# EAGLE library part TSW-D-78_S (library con-samtec-tsw)
HEADER
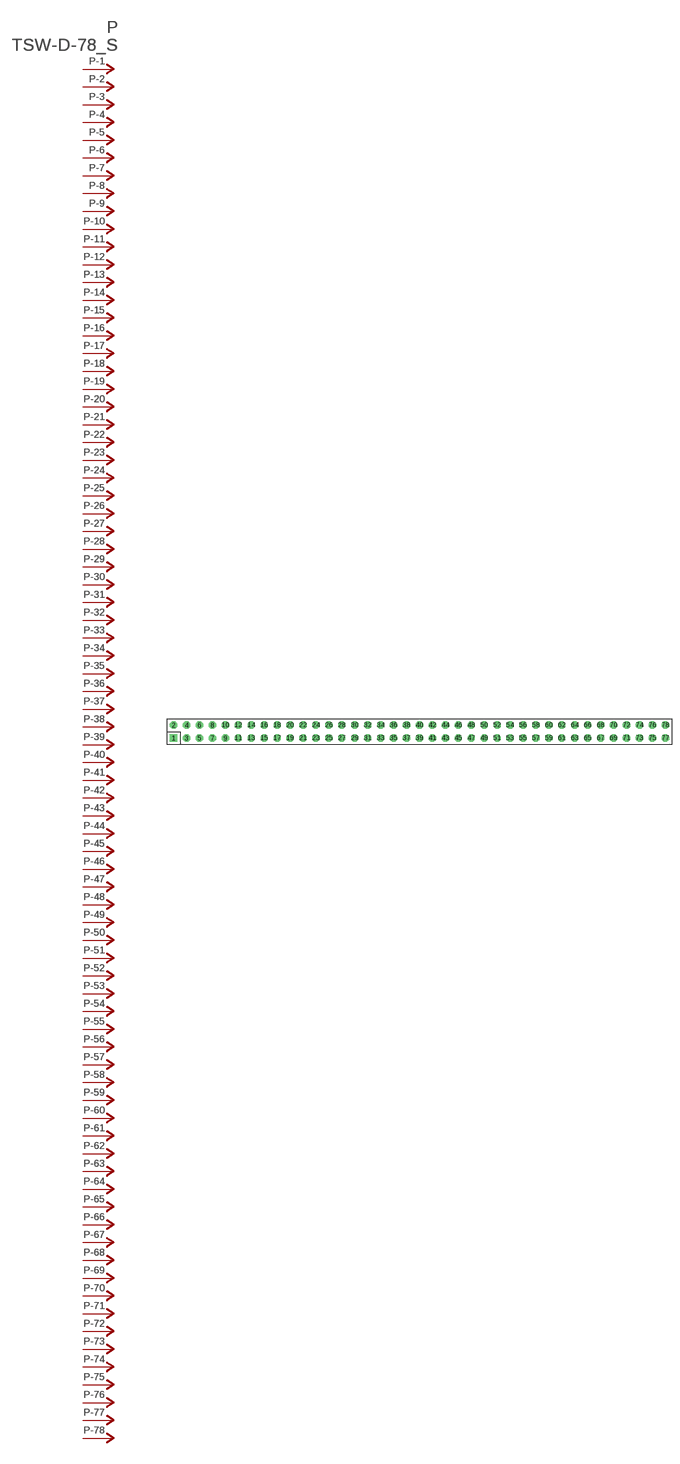
[diagram p174: symbol with the pads of TSW-D-78; footprint TSW-D-78]

Designator prefix P; gates -1=P-NV -2=P-N -3=P-N -4=P-N -5=P-N -6=P-N -7=P-N -8=P-N -9=P-N -10=P-N -11=P-N -12=P-N -13=P-N -14=P-N -15=P-N -16=P-N -17=P-N -18=P-N -19=P-N -20=P-N -21=P-N -22=P-N -23=P-N -24=P-N -25=P-N -26=P-N -27=P-N -28=P-N -29=P-N -30=P-N -31=P-N -32=P-N -33=P-N -34=P-N -35=P-N -36=P-N -37=P-N -38=P-N -39=P-N -40=P-N -41=P-N -42=P-N -43=P-N -44=P-N -45=P-N -46=P-N -47=P-N -48=P-N -49=P-N -50=P-N -51=P-N -52=P-N -53=P-N -54=P-N -55=P-N -56=P-N -57=P-N -58=P-N -59=P-N -60=P-N -61=P-N -62=P-N -63=P-N -64=P-N -65=P-N -66=P-N -67=P-N -68=P-N -69=P-N -70=P-N -71=P-N -72=P-N -73=P-N -74=P-N -75=P-N -76=P-N -77=P-N -78=P-N

## TSW-D-78_S  [TSW-D-78]
1  -1:P  pas
2  -2:P  pas
3  -3:P  pas
4  -4:P  pas
5  -5:P  pas
6  -6:P  pas
7  -7:P  pas
8  -8:P  pas
9  -9:P  pas
10  -10:P  pas
11  -11:P  pas
12  -12:P  pas
13  -13:P  pas
14  -14:P  pas
15  -15:P  pas
16  -16:P  pas
17  -17:P  pas
18  -18:P  pas
19  -19:P  pas
20  -20:P  pas
21  -21:P  pas
22  -22:P  pas
23  -23:P  pas
24  -24:P  pas
25  -25:P  pas
26  -26:P  pas
27  -27:P  pas
28  -28:P  pas
29  -29:P  pas
30  -30:P  pas
31  -31:P  pas
32  -32:P  pas
33  -33:P  pas
34  -34:P  pas
35  -35:P  pas
36  -36:P  pas
37  -37:P  pas
38  -38:P  pas
39  -39:P  pas
40  -40:P  pas
41  -41:P  pas
42  -42:P  pas
43  -43:P  pas
44  -44:P  pas
45  -45:P  pas
46  -46:P  pas
47  -47:P  pas
48  -48:P  pas
49  -49:P  pas
50  -50:P  pas
51  -51:P  pas
52  -52:P  pas
53  -53:P  pas
54  -54:P  pas
55  -55:P  pas
56  -56:P  pas
57  -57:P  pas
58  -58:P  pas
59  -59:P  pas
60  -60:P  pas
61  -61:P  pas
62  -62:P  pas
63  -63:P  pas
64  -64:P  pas
65  -65:P  pas
66  -66:P  pas
67  -67:P  pas
68  -68:P  pas
69  -69:P  pas
70  -70:P  pas
71  -71:P  pas
72  -72:P  pas
73  -73:P  pas
74  -74:P  pas
75  -75:P  pas
76  -76:P  pas
77  -77:P  pas
78  -78:P  pas

## Footprint TSW-D-78 (pad centres in mm)
HEADER
drill 0.914 square: 1 -48.26,-1.27
drill 0.914 octagon: 2 -48.26,1.27; 3 -45.72,-1.27; 4 -45.72,1.27; 5 -43.18,-1.27; 6 -43.18,1.27; 7 -40.64,-1.27; 8 -40.64,1.27; 9 -38.1,-1.27; 10 -38.1,1.27; 11 -35.56,-1.27; 12 -35.56,1.27; 13 -33.02,-1.27; 14 -33.02,1.27; 15 -30.48,-1.27; 16 -30.48,1.27; 17 -27.94,-1.27; 18 -27.94,1.27; 19 -25.4,-1.27; 20 -25.4,1.27; 21 -22.86,-1.27; 22 -22.86,1.27; 23 -20.32,-1.27; 24 -20.32,1.27; 25 -17.78,-1.27; 26 -17.78,1.27; 27 -15.24,-1.27; 28 -15.24,1.27; 29 -12.7,-1.27; 30 -12.7,1.27; 31 -10.16,-1.27; 32 -10.16,1.27; 33 -7.62,-1.27; 34 -7.62,1.27; 35 -5.08,-1.27; 36 -5.08,1.27; 37 -2.54,-1.27; 38 -2.54,1.27; 39 0,-1.27; 40 0,1.27; 41 2.54,-1.27; 42 2.54,1.27; 43 5.08,-1.27; 44 5.08,1.27; 45 7.62,-1.27; 46 7.62,1.27; 47 10.16,-1.27; 48 10.16,1.27; 49 12.7,-1.27; 50 12.7,1.27; 51 15.24,-1.27; 52 15.24,1.27; 53 17.78,-1.27; 54 17.78,1.27; 55 20.32,-1.27; 56 20.32,1.27; 57 22.86,-1.27; 58 22.86,1.27; 59 25.4,-1.27; 60 25.4,1.27; 61 27.94,-1.27; 62 27.94,1.27; 63 30.48,-1.27; 64 30.48,1.27; 65 33.02,-1.27; 66 33.02,1.27; 67 35.56,-1.27; 68 35.56,1.27; 69 38.1,-1.27; 70 38.1,1.27; 71 40.64,-1.27; 72 40.64,1.27; 73 43.18,-1.27; 74 43.18,1.27; 75 45.72,-1.27; 76 45.72,1.27; 77 48.26,-1.27; 78 48.26,1.27